# Altium integrated library Altera APEX 20KC.IntLib: 42 symbols (part 13 of 13)
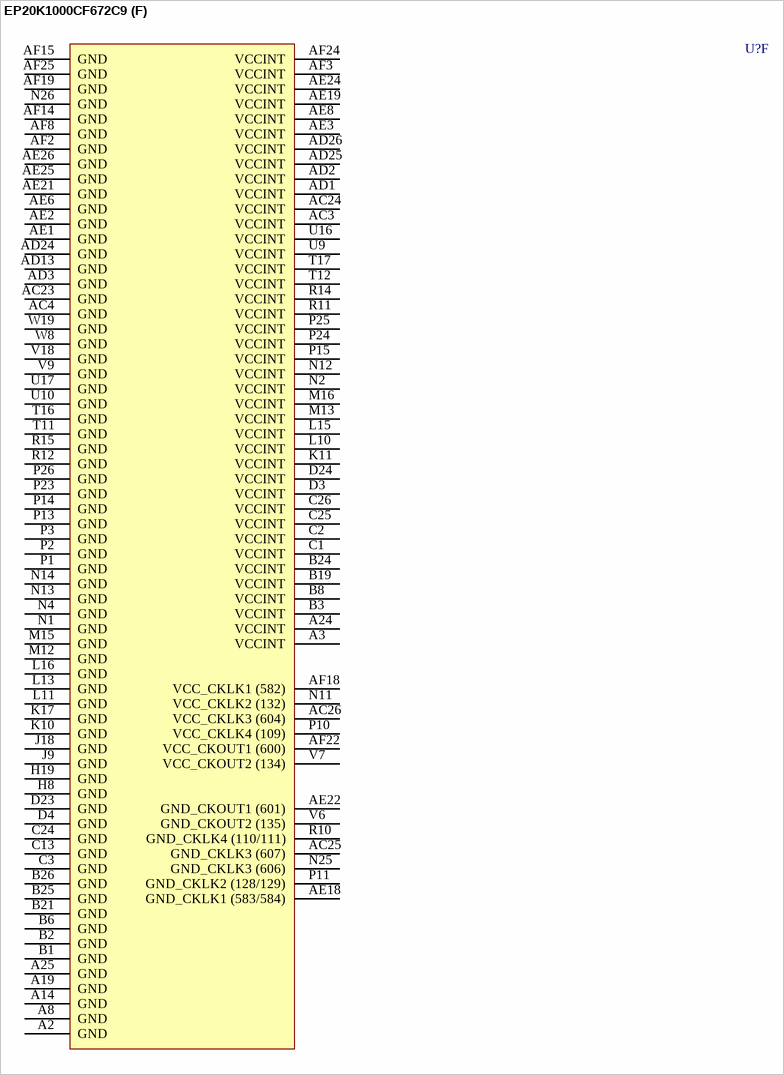
[diagram p104: symbol EP20K1000CF672C9]

## EP20K1000CF672C9
designator U?
APEX 20KC Family, 1.8V FPGA, 508 I/O Pins, 4 x PLLs, Commercial Grade, Speed Grade 9; Note: Pin compatible with Apex 20KE equivalent; Published: 23-Sep-2002; LatestRevisionDate: 13-Apr-2006; LatestRevisionNote: IPC-7351 Footprint Added.; DatasheetVersion: ver2.2, Feb-2004; PackageVersion: ver14.1, Oct-2005; PackageReference: FBGA672; Publisher: Altium Limited; PackageDescription: 672-Ball FineLine Ball Grid Array (FBGA672) - Flip Chip; Code_JEDEC: MS-034-AAL-1; ComponentLink1Description: Manufacturer Link; ComponentLink1URL: http://www.altera.com/products/devices/apex/apx-index.html; ComponentLink2Description: Datasheet; ComponentLink2URL: http://www.altera.com/literature/ds/ds_apex20kc.pdf
footprint FBGA672 (BGA, 672-Leads, Body 27x27mm, Pitch 1mm)
3D model EP20K1000C-FBGA672T (672-Ball FineLine Ball Grid Array (FBGA672) - Flip Chip)
part A pins: A4 IO (7) (io), A5 IO (5) (io), A6 VCCIO1 (power), A7 IO (935) (io), A9 IO (910) (io), A10 IO (868) (io), A11 IO (864) (io), A12 IO (856) (io), A13 VCCIO2 (power), A15 IO (825), A16 VCCIO2, A17 IO (803) (io), A18 IO (793) (io), A20 IO (763) (io), A22 IO (743) (io), A23 IO (728) (io), B4 IO (6) (io), B5 IO (2) (io), B7 IO (930) (io), B9 IO (895) (io), B10 IO (879) (io), B11 IO (860) (io), B12 IO (861) (io), B13 IO (845), B14 IO (840), B15 IO (823), B16 IO (819), B17 IO (801) (io), B18 IO (781) (io), B20 IO (762) (io), B22 IO (730) (io), B23 IO (727) (io), C5 IO (940) (io), C6 IO (1) (io), C7 IO (922) (io), C8 IO (917) (io), C9 IO (898) (io), C10 IO (880) (io), C11 IO (846), C12 IO (844), C14 IO (838), C15 IO (821), C16 IO (818), C17 IO (797) (io), C18 IO (778) (io), C19 IO (765) (io), C20 IO (755) (io), C21 IO (738) (io), C22 IO (724) (io), C23 IO (720) (io), D6 IO (934) (io), D7 IO (933) (io), D8 IO (914) (io), D9 IO (902) (io), D10 IO (882) (io), D11 IO (875) (io), D12 IO (873) (io), D13 IO (858) (io), D14 IO (850) (io), D15 IO (848) (io), D16 IO (800) (io), D17 IO (784) (io), D18 IO (769) (io), D19 IO (760) (io), D20 IO (750) (io), D21 IO (734) (io), D22 IO (714) (io), E6 IO (938) (io), E7 IO (919) (io), E8 IO (916) (io), E9 IO (900) (io), E10 IO (885) (io), E11 IO (878) (io), E12 IO (866) (io), E13 IO (811) (io), E14 IO (805) (io), E15 IO (799) (io), E16 IO (788) (io), E17 IO (767) (io), E18 IO (761) (io), E19 IO (746) (io), E20 IO (740) (io), E21 IO (729) (io), E23 IO (713) (io), E24 IO (718) (io), F6 IO/DATA5 (942) (io), F7 IO (936) (io), F8 IO (918) (io), F9 IO (901) (io), F10 IO/DATA3 (907) (io), F11 IO (893) (io), F12 IO (863) (io), F15 IO (802) (io), F16 IO (783) (io), F17 IO (776) (io), F18 IO (764) (io), F19 IO (745) (io), F20 IO (732) (io), F23 IO (726) (io), F24 IO (715) (io), G9 IO/DATA4 (924) (io), G10 IO (920) (io), G11 IO (899) (io), G12 IO (897) (io), G15 IO (815) (io), G16 IO (790) (io), G17 IO (780) (io), G18 IO (757) (io), G19 IO (744) (io), G23 IO (722) (io), H10 IO (928) (io), H11 IO (912) (io), H12 IO (883) (io), H13 IO (862) (io), H15 IO (807) (io), H16 IO (795) (io), H17 IO (782) (io), H18 IO (752) (io), H23 IO (719) (io), J10 VCCIO1 (power), J11 IO (932) (io), J12 IO/DATA2 (887) (io), J13 IO (881) (io), J14 IO/RDYnBSY (847) (io), J15 IO/INIT_DONE (842) (io), J16 IO (817) (io), J17 IO (785) (io), J19 IO (742) (io), K12 IO (905) (io), K13 IO/DATA1 (870) (io), K14 IO/CLKUSR (852) (io), K15 IO (816) (io), K16 VCCIO2 (power), K18 IO (748) (io), L12 VCCIO1 (power), L14 IO (813) (io), M14 VCCIO2 (power)
part B pins: A21 VCCIO3 (power), AA21 IO (481) (io), AA22 IO (520) (io), AA25 IO/LVDSRX01p (614) (io), AA26 IO/LVDSRX01n (615) (io), AB21 IO (488) (io), AB22 IO (494) (io), AB25 IO/LVDSRXINCLK1p (608) (io), AB26 IO/LVDSRXINCLK1n (609) (io), AE20 CLKLK_FB1p (587) (in), AE23 CLKLK_OUT1p (602) (out), AF20 IO/CLKLK_FB1n (586) (io), AF23 IO/CLKLK_OUT1n (603) (io), D25 IO/LVDSRX16n (662) (io), D26 IO/LVDSRX16p (663) (io), E22 IO (709) (io), E25 IO/LVDSRX15p (659) (io), E26 IO/LVDSRX15n (660) (io), F21 IO (707) (io), F22 IO (700) (io), F25 IO/LVDSRX14n (656) (io), F26 IO/LVDSRX14p (657) (io), G20 IO (702) (io), G21 IO (694) (io), G22 IO (674) (io), G24 IO (687) (io), G25 IO/LVDSRX13p (653) (io), G26 IO/LVDSRX13n (654) (io), H20 IO (676) (io), H21 IO (689) (io), H22 IO (681) (io), H24 IO (661) (io), H25 IO/LVDSRX12n (649) (io), H26 IO/LVDSRX12p (650) (io), J20 IO (670) (io), J21 IO (696) (io), J22 IO (683) (io), J23 IO (610) (io), J24 IO (622) (io), J25 IO/LVDSRX11p (646) (io), J26 IO/LVDSRX11n (647) (io), K19 IO (668) (io), K20 IO (642) (io), K21 IO (629) (io), K22 IO (648) (io), K23 IO (635) (io), K24 IO (655) (io), K25 IO/LVDSRX10n (643) (io), K26 IO/LVDSRX10p (644) (io), L17 VCCIO3 (power), L18 IO/LOCK3 (616) (io), L19 IO (611) (io), L20 IO (557) (io), L21 IO/LOCK1 (576) (io), L22 IO (575) (io), L23 IO (579) (io), L24 IO (580) (io), L25 IO/LVDSRX09p (640) (io), L26 IO/LVDSRX09n (641) (io), M17 IO (559) (io), M18 IO (561) (io), M19 CLK3p (589) (in), M20 IO/CLK3n (588) (io), M21 IO (569) (io), M22 IO (572) (io), M23 IO (574) (io), M24 IO (570) (io), M25 IO/LVDSRX08n (636) (io), M26 IO/LVDSRX08p (637) (io), N15 VCCIO3 (power), N16 IO (537) (io), N17 IO (544) (io), N18 IO (553) (io), N19 IO (555) (io), N22 IO (556) (io), N23 IO (581) (io), N24 VCCIO4 (power), P17 IO (531) (io), P18 IO (543) (io), P19 IO/CLK1n (590) (io), P20 CLK1p (595) (in), P22 IO (550) (io), R16 VCCIO4 (power), R17 IO (527) (io), R18 IO (533) (io), R19 IO (541) (io), R20 IO (549) (io), R21 IO (547) (io), R22 IO (573) (io), R23 IO (563) (io), R24 IO (567) (io), R25 IO/LVDSRX07p (633) (io), R26 IO/LVDSRX07n (634) (io), T18 IO (501) (io), T19 IO (529) (io), T20 IO (535) (io), T21 IO (546) (io), T22 IO (560) (io), T23 IO (562) (io), T24 IO (568) (io), T25 IO/LVDSRX06n (630) (io), T26 IO/LVDSRX06p (631) (io), U18 VCCIO4 (power), U19 IO (490) (io), U20 IO (522) (io), U21 IO (530) (io), U22 IO (548) (io), U23 IO (554) (io), U24 IO (566) (io), U25 IO/LVDSRX05p (627) (io), U26 IO/LVDSRX05n (628) (io), V19 IO (496) (io), V20 IO (507) (io), V21 IO (509) (io), V22 IO (540) (io), V23 IO (542) (io), V24 IO (536) (io), V25 IO/LVDSRX04n (623) (io), V26 IO/LVDSRX04p (624) (io), W21 IO (503) (io), W22 IO (516) (io), W23 IO (528) (io), W24 IO (534) (io), W25 IO/LVDSRX03p (620) (io), W26 IO/LVDSRX03n (621) (io), Y21 IO (514) (io), Y22 IO (483) (io), Y25 IO/LVDSRX02n (617) (io), Y26 IO/LVDSRX02p (618) (io)
part C pins: AA3 IO (258) (io), AA4 IO (245) (io), AA8 IO (286) (io), AA9 IO (281) (io), AA10 IO (308) (io), AA11 IO (314) (io), AA16 IO (409) (io), AA17 IO (427) (io), AA18 IO (434) (io), AA19 IO (447) (io), AA20 IO (465) (io), AA23 IO (476) (io), AA24 IO (477) (io), AB3 IO (251) (io), AB4 IO (244) (io), AB7 IO (263) (io), AB8 IO (271) (io), AB9 IO (295) (io), AB10 IO (312) (io), AB11 IO (310) (io), AB12 IO (335) (io), AB13 IO (385) (io), AB14 IO (389) (io), AB15 IO (399) (io), AB16 IO (404) (io), AB17 IO (422) (io), AB18 IO (429) (io), AB19 IO (462) (io), AB20 IO (461) (io), AB23 IO (478) (io), AB24 IO (467) (io), AC5 IO (246) (io), AC6 IO (269) (io), AC7 IO (275) (io), AC8 IO (288) (io), AC9 IO (298) (io), AC10 IO (313) (io), AC11 IO (391) (io), AC12 IO (377) (io), AC13 IO (375) (io), AC14 IO (379) (io), AC15 IO (395) (io), AC16 IO (411) (io), AC17 IO (414) (io), AC18 IO (436) (io), AC19 IO (457) (io), AC20 IO (463) (io), AC21 IO (471) (io), AC22 IO (469) (io), AD4 IO (257) (io), AD5 IO (260) (io), AD6 IO (261) (io), AD7 IO (276) (io), AD8 IO (292) (io), AD9 IO (306) (io), AD10 IO (381) (io), AD11 IO (347), AD12 IO (348), AD14 IO (369), AD15 IO (373), AD16 IO (374), AD17 IO (376) (io), AD18 IO (392) (io), AD19 IO (408) (io), AD20 IO (428) (io), AD21 IO (448) (io), AD22 IO (451) (io), AD23 IO (464) (io), AE4 IO (250) (io), AE5 IO (259) (io), AE7 IO (279) (io), AE9 IO (315) (io), AE10 IO (329) (io), AE11 IO (345) (io), AE12 IO (351), AE13 IO (355), AE14 IO (367), AE15 IO (371), AE16 IO (426) (io), AE17 IO (441) (io), AF4 IO (253) (io), AF5 IO (273) (io), AF7 IO (283) (io), AF9 IO (320) (io), AF10 IO (337) (io), AF11 IO (325) (io), AF12 IO (353), AF13 VCCIO6 (power), AF16 IO (431) (io), AF17 IO (445) (io), AF21 VCCIO5 (power), R13 VCCIO6 (power), T9 IO (277) (io), T13 IO (332) (io), T14 IO (407) (io), T15 VCCIO5 (power), U11 VCCIO6 (power), U12 IO/LVDSDESKEW (349) (io), U13 IO (341) (io), U14 IO (393) (io), U15 IO (416) (io), V8 IO (274) (io), V10 VCCIO6 (power), V11 IO (311) (io), V12 IO (327) (io), V13 IO (346) (io), V14 IO (387) (io), V15 IO (397) (io), V16 IO (424) (io), V17 VCCIO5 (power), W9 IO (294) (io), W10 IO (296) (io), W11 IO (323) (io), W12 IO (330) (io), W13 IO (343) (io), W14 IO (333) (io), W15 IO (402) (io), W16 IO (412) (io), W17 IO (439) (io), W18 IO (446) (io), W20 IO (453) (io), Y3 IO (255) (io), Y4 IO (249) (io), Y7 IO (265) (io), Y8 IO (291) (io), Y9 IO (293) (io), Y10 IO (300) (io), Y11 IO (318) (io), Y12 IO (331) (io), Y15 IO (390) (io), Y16 IO (410) (io), Y17 IO (430) (io), Y18 IO (443) (io), Y19 IO (449) (io), Y20 IO (459) (io), Y23 IO (472) (io), Y24 IO (473) (io)
part D pins: AA1 IO/LVDSTX14n (188) (io), AA2 IO/LVDSTX14p (189) (io), AA5 IO (228) (io), AA6 IO (234) (io), AA7 IO (239) (io), AB1 IO/LVDSTX15p (191) (io), AB2 IO/LVDSTX15n (192) (io), AB5 IO (226) (io), AB6 IO (241) (io), AC1 IO/LVDSTX16n (194) (io), AC2 IO/LVDSTX16p (195) (io), AF6 VCCIO7 (power), C4 IO (46) (io), D1 IO/LVDSTXINCLK1p (139) (io), D2 IO/LVDSTXINCLK1n (140) (io), D5 IO (31) (io), E1 IO/LVDSTXOUTCLK1n (142) (io), E2 IO/LVDSTXOUTCLK1p (143) (io), E3 IO (13) (io), E4 IO (24) (io), E5 IO (11) (io), F1 IO/LVDSTX01p (146) (io), F2 IO/LVDSTX01n (147) (io), F3 IO (26) (io), F4 IO (20) (io), F5 IO (18) (io), G1 IO/LVDSTX02n (149) (io), G2 IO/LVDSTX02p (150) (io), G3 IO (37) (io), G4 IO (44) (io), G5 IO (33) (io), G6 IO (50) (io), G7 IO (57) (io), G8 IO (39) (io), H1 IO/LVDSTX03p (152) (io), H2 IO/LVDSTX03n (153) (io), H3 IO (66) (io), H4 IO (59) (io), H5 IO (52) (io), H6 IO (60) (io), H7 IO (58) (io), H9 IO (64) (io), J1 IO/LVDSTX04n (155) (io), J2 IO/LVDSTX04p (156) (io), J3 IO (76) (io), J4 IO (70) (io), J5 IO (63) (io), J6 IO (72) (io), J7 IO (74) (io), J8 IO (65) (io), K1 IO/LVDSTX05p (159) (io), K2 IO/LVDSTX05n (160) (io), K3 IO (67) (io), K4 IO (80) (io), K5 IO (71) (io), K6 IO (79) (io), K7 IO (61) (io), K8 IO (77) (io), K9 VCCIO8 (power), L1 IO/LVDSTX06n (162) (io), L2 IO/LVDSTX06p (163) (io), L3 IO (97) (io), L4 IO (96) (io), L5 IO (92) (io), L6 IO (73) (io), L7 IO (87) (io), L8 IO/DATA6 (78) (io), L9 IO (89) (io), M1 IO/LVDSTX07p (165) (io), M2 IO/LVDSTX07n (166) (io), M3 IO (102) (io), M4 IO (113) (io), M5 IO (100) (io), M6 IO (86) (io), M7 IO (90) (io), M8 IO (84) (io), M9 IO/nCS (104) (io), M10 IO/DATA7 (85) (io), M11 VCCIO8 (power), N3 VCCIO8 (power), N5 IO (83) (io), N8 CLK2p (125) (in), N9 IO/CLK2n (120) (io), N10 IO/nRS (98) (io), P4 IO (103) (io), P5 IO (106) (io), P8 IO (93) (io), P9 IO/nWS (91) (io), P12 VCCIO7 (power), R1 IO/LVDSTX08n (168) (io), R2 IO/LVDSTX08p (169) (io), R3 IO (105) (io), R4 IO (99) (io), R5 IO (148) (io), R6 CLK4p (119) (in), R7 IO/CLK4n (118) (io), R8 IO/DEV_OE (133) (io), R9 IO/DEV_CLRn (114) (io), T1 IO/LVDSTX09p (172) (io), T2 IO/LVDSTX09n (173) (io), T3 IO (167) (io), T4 IO (180) (io), T5 IO (154) (io), T6 IO/CS (112) (io), T7 CLKLK_OUT2p (136) (out), T8 IO/CLKLK_FB2n (116) (io), T10 VCCIO7 (power), U1 IO/LVDSTX10n (175) (io), U2 IO/LVDSTX10p (176) (io), U3 IO (200) (io), U4 IO (187) (io), U5 IO (174) (io), U6 IO/LOCK2 (141) (io), U7 IO/CLKLK_OUT2n (137) (io), U8 CLKLK_FB2p (117) (in), V1 IO/LVDSTX11p (178) (io), V2 IO/LVDSTX11n (179) (io), V3 IO (202) (io), V4 IO (215) (io), V5 IO (213) (io), W1 IO/LVDSTX12n (181) (io), W2 IO/LVDSTX12p (182) (io), W3 IO (219) (io), W4 IO (193) (io), W5 IO (206) (io), W6 IO (208) (io), W7 IO/LOCK4 (161) (io), Y1 IO/LVDSTX13p (185) (io), Y2 IO/LVDSTX13n (186) (io), Y5 IO (221) (io), Y6 IO (232) (io)
part E pins: AA12 CONF_DONE (356) (io), AA13 nSTATUS (357) (io), AA14 TCK (365) (in), AA15 TMS (366) (in), F13 FAST2 (835) (io), F14 TRST (827) (in), G13 TDO (836) (out), G14 nCEO (828) (in), H14 FAST1 (829) (io), N6 DATA0 (123) (in), N7 DCLK (124) (in), N20 MSEL1 (596) (in), N21 MSEL0 (597) (in), P6 nCE (126) (in), P7 TDI (127) (in), P16 CLKLK_ENA (594) (in), P21 nCONFIG (593) (in), Y13 FAST4 (358) (io), Y14 FAST3 (364) (io)
part F pins: A2 GND (power), A3 VCCINT (power), A8 GND (power), A14 GND (power), A19 GND (power), A24 VCCINT (power), A25 GND (power), AC3 VCCINT (power), AC4 GND (power), AC23 GND (power), AC24 VCCINT (power), AC25 GND_CKLK3 (607) (power), AC26 VCC_CKLK3 (604) (power), AD1 VCCINT (power), AD2 VCCINT (power), AD3 GND (power), AD13 GND (power), AD24 GND (power), AD25 VCCINT (power), AD26 VCCINT (power), AE1 GND (power), AE2 GND (power), AE3 VCCINT (power), AE6 GND (power), AE8 VCCINT (power), AE18 GND_CKLK1 (583/584) (power), AE19 VCCINT (power), AE21 GND (power), AE22 GND_CKOUT1 (601) (power), AE24 VCCINT (power), AE25 GND (power), AE26 GND (power), AF2 GND (power), AF3 VCCINT (power), AF8 GND (power), AF14 GND (power), AF15 GND, AF18 VCC_CKLK1 (582) (power), AF19 GND (power), AF22 VCC_CKOUT1 (600) (power), AF24 VCCINT (power), AF25 GND (power), B1 GND (power), B2 GND (power), B3 VCCINT (power), B6 GND (power), B8 VCCINT (power), B19 VCCINT (power), B21 GND (power), B24 VCCINT (power), B25 GND (power), B26 GND (power), C1 VCCINT (power), C2 VCCINT (power), C3 GND (power), C13 GND (power), C24 GND (power), C25 VCCINT (power), C26 VCCINT (power), D3 VCCINT (power), D4 GND (power), D23 GND (power), D24 VCCINT (power), H8 GND (power), H19 GND (power), J9 GND (power), J18 GND (power), K10 GND (power), K11 VCCINT (power), K17 GND (power), L10 VCCINT (power), L11 GND (power), L13 GND (power), L15 VCCINT (power), L16 GND (power), M12 GND (power), M13 VCCINT (power), M15 GND (power), M16 VCCINT (power), N1 GND (power), N2 VCCINT (power), N4 GND (power), N11 VCC_CKLK2 (132) (power), N12 VCCINT (power), N13 GND (power), N14 GND (power), N25 GND_CKLK3 (606) (power), N26 GND (power), P1 GND (power), P2 GND (power), P3 GND (power), P10 VCC_CKLK4 (109) (power), P11 GND_CKLK2 (128/129) (power), P13 GND (power), P14 GND (power), P15 VCCINT (power), P23 GND (power), P24 VCCINT (power), P25 VCCINT (power), P26 GND (power), R10 GND_CKLK4 (110/111) (power), R11 VCCINT (power), R12 GND (power), R14 VCCINT (power), R15 GND (power), T11 GND (power), T12 VCCINT (power), T16 GND (power), T17 VCCINT (power), U9 VCCINT (power), U10 GND (power), U16 VCCINT (power), U17 GND (power), V6 GND_CKOUT2 (135) (power), V7 VCC_CKOUT2 (134) (power), V9 GND (power), V18 GND (power), W8 GND (power), W19 GND (power)
part A text: BANK 1; BANK 2
part B text: BANK 3; BANK 4
part C text: BANK 5; BANK 6
part D text: BANK 7; BANK 8